# Altium schematic symbol library R2512.SchLib: 1 symbol
Pins are listed as number, name and electrical type; pins without a type are passive.

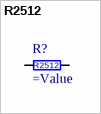
[diagram p0: symbol R2512]

## R2512
designator R?
pins: 1, 2